# Altium integrated library 74LS163.IntLib: 1 symbol
Pins are listed as number, name and electrical type; pins without a type are passive.

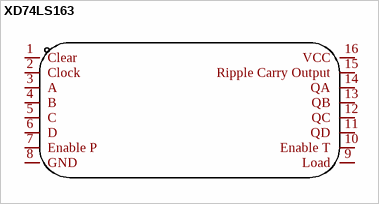
[diagram p0: symbol XD74LS163]

## XD74LS163
designator U??  (value not drawn)
Manufacturer: XINLUDA(信路达); Add into BOM: yes; Name: XD74LS163; Symbol: XD74LS163; Device: XD74LS163; LCSC Part Name: 计数器 IC; Supplier Part: C707103; Manufacturer Part: XD74LS163; Supplier Footprint: DIP-16; JLCPCB Part Class: Extended Part; Datasheet: https://atta.szlcsc.com/upload/public/pdf/source/20200724/C707103_6E9EA63A042B5738BA840916FB833BE6.pdf; Supplier: LCSC; Convert to PCB: yes
footprint DIP-16_L19.8-W6.5-P2.54-LS7.6-BL
3D model DIP-16_L20.0-W6.4-H3.5-LS7.62-P2.54
pins: 1 Clear, 2 Clock, 3 A, 4 B, 5 C, 6 D, 7 Enable P, 8 GND, 9 Load, 10 Enable T, 11 QD, 12 QC, 13 QB, 14 QA, 15 Ripple Carry Output, 16 VCC